# EAGLE library part MSP430G2755_RHA_40 (library TI_MSP430_v16)
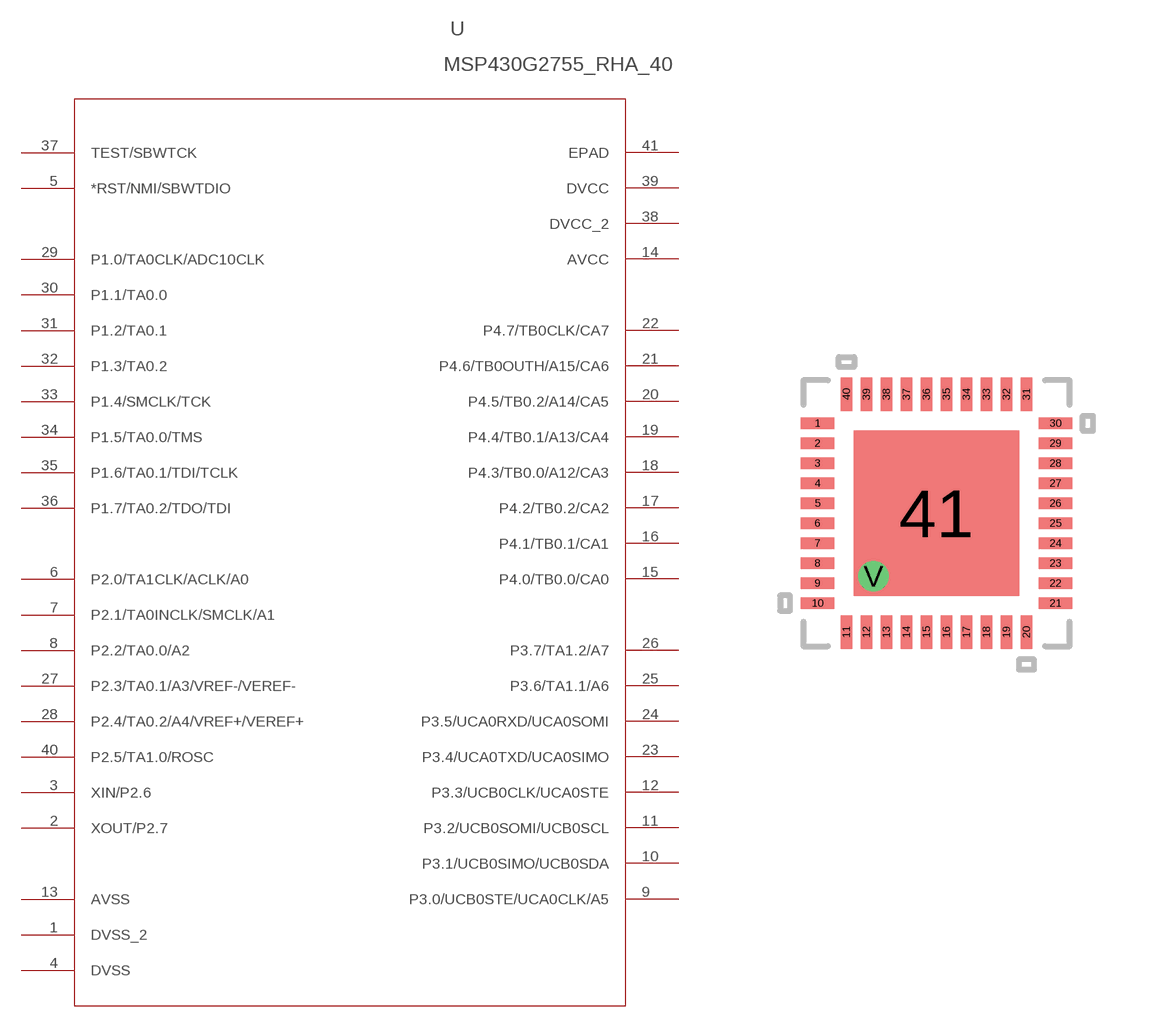
[diagram p146: symbol with the pads of RHA40_4P15X4P15; footprint RHA40_4P15X4P15]

Designator prefix U

## MSP430G2755_RHA_40 (MANUFACTURER_PART_NUMBER: msp430g2755_rha_40; VENDOR: TEXAS INSTRUMENTS)  [RHA40_4P15X4P15]
1  DVSS_2  pwr
2  XOUT/P2.7
3  XIN/P2.6
4  DVSS  pwr
5  *RST/NMI/SBWTDIO  in
6  P2.0/TA1CLK/ACLK/A0
7  P2.1/TA0INCLK/SMCLK/A1
8  P2.2/TA0.0/A2
9  P3.0/UCB0STE/UCA0CLK/A5
10  P3.1/UCB0SIMO/UCB0SDA
11  P3.2/UCB0SOMI/UCB0SCL
12  P3.3/UCB0CLK/UCA0STE
13  AVSS  pwr
14  AVCC  pwr
15  P4.0/TB0.0/CA0
16  P4.1/TB0.1/CA1
17  P4.2/TB0.2/CA2
18  P4.3/TB0.0/A12/CA3
19  P4.4/TB0.1/A13/CA4
20  P4.5/TB0.2/A14/CA5
21  P4.6/TB0OUTH/A15/CA6
22  P4.7/TB0CLK/CA7
23  P3.4/UCA0TXD/UCA0SIMO
24  P3.5/UCA0RXD/UCA0SOMI
25  P3.6/TA1.1/A6
26  P3.7/TA1.2/A7
27  P2.3/TA0.1/A3/VREF-/VEREF-
28  P2.4/TA0.2/A4/VREF+/VEREF+
29  P1.0/TA0CLK/ADC10CLK
30  P1.1/TA0.0
31  P1.2/TA0.1
32  P1.3/TA0.2
33  P1.4/SMCLK/TCK
34  P1.5/TA0.0/TMS
35  P1.6/TA0.1/TDI/TCLK
36  P1.7/TA0.2/TDO/TDI
37  TEST/SBWTCK  in
38  DVCC_2  pwr
39  DVCC  pwr
40  P2.5/TA1.0/ROSC
41  EPAD  pas

## Footprint RHA40_4P15X4P15 (pad centres in mm)
smd 0.838 x 0.279: 1 -2.975,2.25; 2 -2.975,1.75; 3 -2.975,1.25; 4 -2.975,0.75; 5 -2.975,0.25; 6 -2.975,-0.25; 7 -2.975,-0.75; 8 -2.975,-1.25; 9 -2.975,-1.75; 10 -2.975,-2.25; 21 2.975,-2.25; 22 2.975,-1.75; 23 2.975,-1.25; 24 2.975,-0.75; 25 2.975,-0.25; 26 2.975,0.25; 27 2.975,0.75; 28 2.975,1.25; 29 2.975,1.75; 30 2.975,2.25
smd 0.279 x 0.838: 11 -2.251,-2.975; 12 -1.75,-2.975; 13 -1.25,-2.975; 14 -0.75,-2.975; 15 -0.25,-2.975; 16 0.25,-2.975; 17 0.75,-2.975; 18 1.25,-2.975; 19 1.75,-2.975; 20 2.251,-2.975; 31 2.251,2.975; 32 1.75,2.975; 33 1.25,2.975; 34 0.75,2.975; 35 0.25,2.975; 36 -0.25,2.975; 37 -0.75,2.975; 38 -1.25,2.975; 39 -1.75,2.975; 40 -2.251,2.975
smd 4.14 x 4.14: 41 0,0
drill 0.254: V -1.575,-1.575